# EAGLE library part SRAM32KX16 (library F030NG)
SRAM memory 32k*16
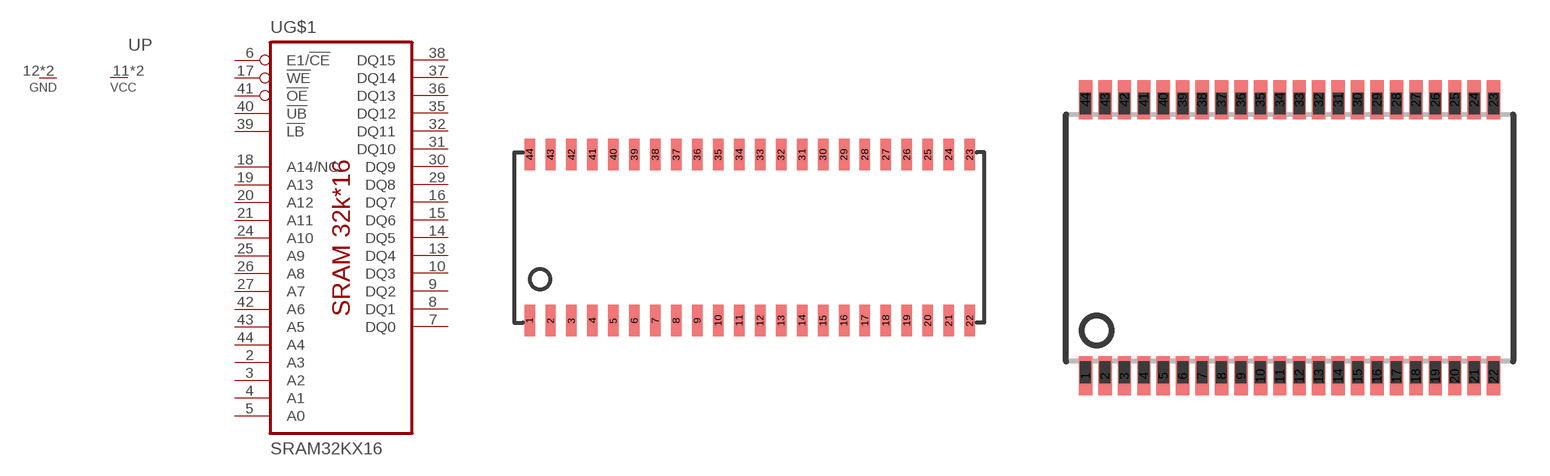
[diagram p63: symbol with the pads of SOJ42-4; footprints SOJ42-4, TSOP-II-44]

Designator prefix U; gates P=1VCC_1GND G$1=RAM32KX16

## SRAM32KX16-SOJ  [SOJ42-4]
2  G$1:A3  in
3  G$1:A2  in
4  G$1:A1  in
5  G$1:A0  in
6  G$1:E1/!CE  in
7  G$1:DQ0
8  G$1:DQ1
9  G$1:DQ2
10  G$1:DQ3
11  P:VCC  pwr
12  P:GND  pwr
13  G$1:DQ4
14  G$1:DQ5
15  G$1:DQ6
16  G$1:DQ7
17  G$1:!WE  in
18  G$1:A14/NC  in
19  G$1:A13  in
20  G$1:A12  in
21  G$1:A11  in
24  G$1:A10  in
25  G$1:A9  in
26  G$1:A8  in
27  G$1:A7  in
29  G$1:DQ8
30  G$1:DQ9
31  G$1:DQ10
32  G$1:DQ11
33  P:VCC  pwr
34  P:GND  pwr
35  G$1:DQ12
36  G$1:DQ13
37  G$1:DQ14
38  G$1:DQ15
39  G$1:!LB  in
40  G$1:!UB  in
41  G$1:!OE  in
42  G$1:A6  in
43  G$1:A5  in
44  G$1:A4  in

## SRAM32KX16-TSOP  [TSOP-II-44]
Pads as for SOJ42-4

## Footprint SOJ42-4 (pad centres in mm)
Small Outline J-Bend
smd 0.635 x 1.905: 1 -13.335,-5.029; 2 -12.065,-5.029; 3 -10.795,-5.029; 4 -9.525,-5.029; 5 -8.255,-5.029; 6 -6.985,-5.029; 7 -5.715,-5.029; 8 -4.445,-5.029; 9 -3.175,-5.029; 10 -1.905,-5.029; 11 -0.635,-5.029; 12 0.635,-5.029; 13 1.905,-5.029; 14 3.175,-5.029; 15 4.445,-5.029; 16 5.715,-5.029; 17 6.985,-5.029; 18 8.255,-5.029; 19 9.525,-5.029; 20 10.795,-5.029; 21 12.065,-5.029; 22 13.335,-5.029; 23 13.335,5.029; 24 12.065,5.029; 25 10.795,5.029; 26 9.525,5.029; 27 8.255,5.029; 28 6.985,5.029; 29 5.715,5.029; 30 4.445,5.029; 31 3.175,5.029; 32 1.905,5.029; 33 0.635,5.029; 34 -0.635,5.029; 35 -1.905,5.029; 36 -3.175,5.029; 37 -4.445,5.029; 38 -5.715,5.029; 39 -6.985,5.029; 40 -8.255,5.029; 41 -9.525,5.029; 42 -10.795,5.029; 43 -12.065,5.029; 44 -13.335,5.029

## Footprint TSOP-II-44 (pad centres in mm)
TSOP-II-44 44-pin thin small-outline package, Typ II
smd 0.55 x 1.6: 1 -8.4,-5.68; 2 -7.6,-5.68; 3 -6.8,-5.68; 4 -6,-5.68; 5 -5.2,-5.68; 6 -4.4,-5.68; 7 -3.6,-5.68; 8 -2.8,-5.68; 9 -2,-5.68; 10 -1.2,-5.68; 11 -0.4,-5.68; 12 0.4,-5.68; 13 1.2,-5.68; 14 2,-5.68; 15 2.8,-5.68; 16 3.6,-5.68; 17 4.4,-5.68; 18 5.2,-5.68; 19 6,-5.68; 20 6.8,-5.68; 21 7.6,-5.68; 22 8.4,-5.68; 23 8.4,5.68; 24 7.6,5.68; 25 6.8,5.68; 26 6,5.68; 27 5.2,5.68; 28 4.4,5.68; 29 3.6,5.68; 30 2.8,5.68; 31 2,5.68; 32 1.2,5.68; 33 0.4,5.68; 34 -0.4,5.68; 35 -1.2,5.68; 36 -2,5.68; 37 -2.8,5.68; 38 -3.6,5.68; 39 -4.4,5.68; 40 -5.2,5.68; 41 -6,5.68; 42 -6.8,5.68; 43 -7.6,5.68; 44 -8.4,5.68